# EAGLE library part PIC_CN (library Connectors)
PICKit 3 インターフェースピン
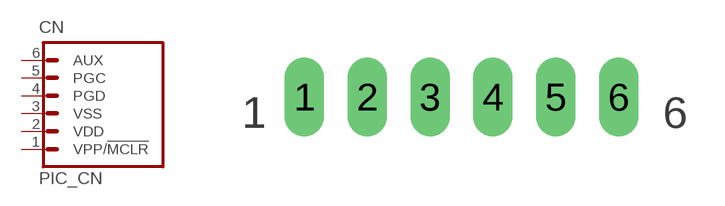
[diagram p1: symbol with the pads of HEADER_6PIN; footprint HEADER_6PIN]

Designator prefix CN

## PIC_CN_H  [HEADER_6PIN]
1  VPP/!MCLR  in
2  VDD  pas
3  VSS  pas
4  PGD
5  PGC  in
6  AUX

## Footprint HEADER_6PIN (pad centres in mm)
PIN HEADER
drill 1 pad 1.6 long: 1 0,0; 2 2.54,0; 3 5.08,0; 4 7.62,0; 5 10.16,0; 6 12.7,0